# EAGLE library part CRD89C51RD-DIL40 (library micro-cyrod)
CRD89C51RD series 8 - bit single chip micro controller unit (MCU) with 64KB flash & 1K byte RAM embedded. Auto generated by make-symbol-device-package-bsdl.ulp Rev. 35 Source: CRD89C51RD_v001.pdf
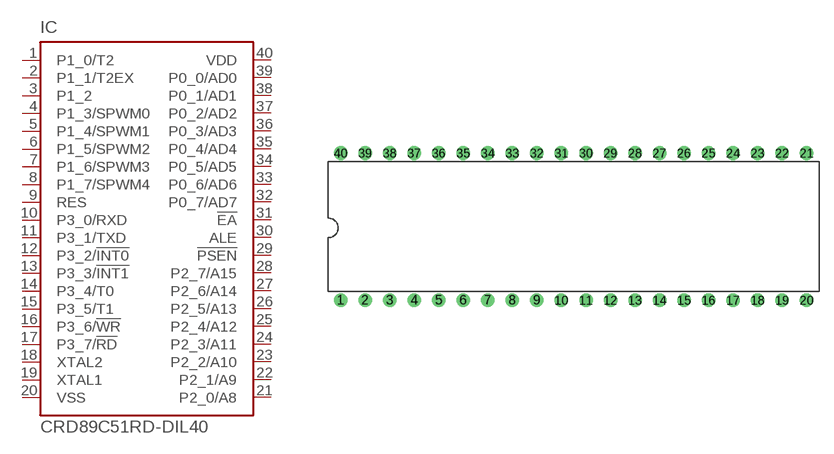
[diagram p3: symbol with the pads of DIL40; footprint DIL40]

Designator prefix IC

## CRD89C51RD-DIL40 (OC_FARNELL: unknown; OC_NEWARK: unknown)  [DIL40]
1  P1_0/T2
2  P1_1/T2EX
3  P1_2
4  P1_3/SPWM0
5  P1_4/SPWM1
6  P1_5/SPWM2
7  P1_6/SPWM3
8  P1_7/SPWM4
9  RES  in
10  P3_0/RXD
11  P3_1/TXD
12  P3_2/!INT0
13  P3_3/!INT1
14  P3_4/T0
15  P3_5/T1
16  P3_6/!WR
17  P3_7/!RD
18  XTAL2  out
19  XTAL1  in
20  VSS  pwr
21  P2_0/A8
22  P2_1/A9
23  P2_2/A10
24  P2_3/A11
25  P2_4/A12
26  P2_5/A13
27  P2_6/A14
28  P2_7/A15
29  !PSEN  out
30  ALE  out
31  !EA  in
32  P0_7/AD7
33  P0_6/AD6
34  P0_5/AD5
35  P0_4/AD4
36  P0_3/AD3
37  P0_2/AD2
38  P0_1/AD1
39  P0_0/AD0
40  VDD  pwr

## Footprint DIL40 (pad centres in mm)
Dual In Line Package 600mil
drill 0.8 pad 1.4: 1 -24.13,-7.62; 2 -21.59,-7.62; 3 -19.05,-7.62; 4 -16.51,-7.62; 5 -13.97,-7.62; 6 -11.43,-7.62; 7 -8.89,-7.62; 8 -6.35,-7.62; 9 -3.81,-7.62; 10 -1.27,-7.62; 11 1.27,-7.62; 12 3.81,-7.62; 13 6.35,-7.62; 14 8.89,-7.62; 15 11.43,-7.62; 16 13.97,-7.62; 17 16.51,-7.62; 18 19.05,-7.62; 19 21.59,-7.62; 20 24.13,-7.62; 21 24.13,7.62; 22 21.59,7.62; 23 19.05,7.62; 24 16.51,7.62; 25 13.97,7.62; 26 11.43,7.62; 27 8.89,7.62; 28 6.35,7.62; 29 3.81,7.62; 30 1.27,7.62; 31 -1.27,7.62; 32 -3.81,7.62; 33 -6.35,7.62; 34 -8.89,7.62; 35 -11.43,7.62; 36 -13.97,7.62; 37 -16.51,7.62; 38 -19.05,7.62; 39 -21.59,7.62; 40 -24.13,7.62